# Altium footprint library PcbLib1.PcbLib: 3 footprints
Each footprint in its own frame and in the unit in brackets; x right, y up, seen from the top. Pads: shape width x height; smd on the part's side, far side on the other; paste and mask are expansions set on the pad; w line width, h text height; cw(c..) or ccw(c..) is an arc to the next point about the centre after c.
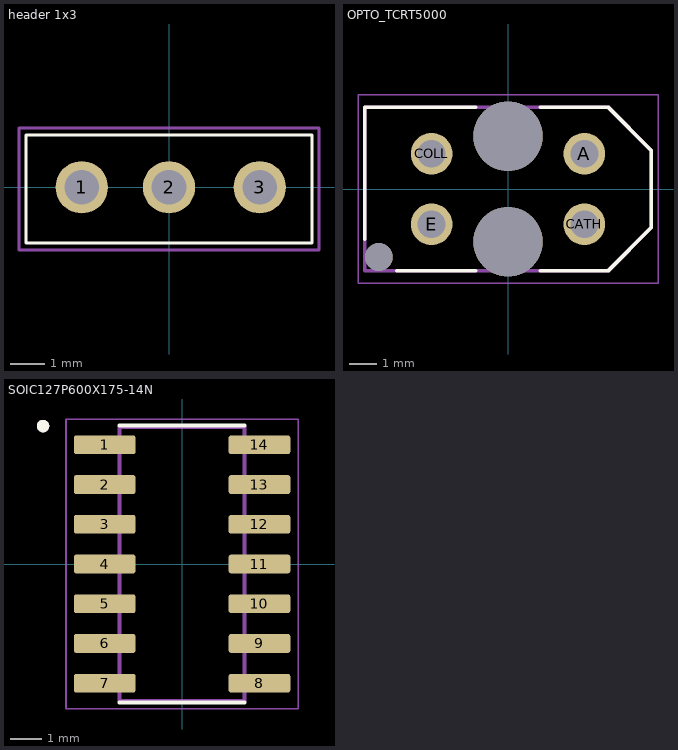
[diagram p0: the footprints below, top view; thin cyan lines are the x and y axes]

## header 1x3 [mm]
pads (3):
  round 1.5 hole 1: 1(-2.5,0) 2(0,0) 3(2.6,0)
Top Overlay:
  lines w0.076: -4.1,-1.6 4.1,-1.6 4.1,1.5 -4.1,1.5 -4.1,-1.6
Mechanical 15:
  lines w0.076: -4.3,-1.8 4.3,-1.8 4.3,1.7 -4.3,1.7 -4.3,-1.8
3D body "User Library-1x3 TH Pitch 2_54mm.STEP": height 9.58, standoff -3.12, extent -3.81,-1.27 3.81,1.27

## OPTO_TCRT5000 [mm]
pads (7):
  round 1.5 hole 1: A(2.75,1.27) CATH(2.75,-1.27) COLL(-2.75,1.27) E(-2.75,-1.27)
  round 1 hole 1 unplated: ""(-4.65,-2.45)
  round 2.5 hole 2.5 unplated: ""(0,-1.9) ""(0,1.9)
Top Overlay:
  lines w0.127: -5.15,-1.8 -5.15,2.95 -1.17,2.95 ; -4,-2.95 -1.17,-2.95 ; 1.17,-2.95 3.6,-2.95 5.15,-1.4 5.15,1.4 3.6,2.95 1.17,2.95
Mechanical 13:
  lines w0.127: -5.15,-2.95 3.6,-2.95 5.15,-1.4 5.15,1.4 3.6,2.95 -5.15,2.95 -5.15,-2.95
Mechanical 15:
  lines w0.05: -5.4,-3.4 5.4,-3.4 5.4,3.4 -5.4,3.4 -5.4,-3.4
3D body "TCRT5000--3DModel-STEP-56544.STEP": height 7.58, standoff -3.42, extent -5.12,-3.4 5.08,3.4

## SOIC127P600X175-14N [mm]
pads (14):
  rrect25% 1.97x0.6 smd: 1(-2.475,3.81) 2(-2.475,2.54) 3(-2.475,1.27) 4(-2.475,0) 5(-2.475,-1.27) 6(-2.475,-2.54) 7(-2.475,-3.81) 8(2.475,-3.81) 9(2.475,-2.54) 10(2.475,-1.27) 11(2.475,0) 12(2.475,1.27) 13(2.475,2.54) 14(2.475,3.81)
Top Overlay:
  circle w0.2: c-4.445,4.41 r0.1
  lines w0.127: -2,-4.43 2,-4.43 ; -2,4.43 2,4.43
Mechanical 13:
  circle w0.2: c-4.445,4.41 r0.1
  lines w0.127: -2,-4.375 -2,4.375 2,4.375 2,-4.375 -2,-4.375
Mechanical 15:
  lines w0.05: -3.71,-4.625 -3.71,4.625 3.71,4.625 3.71,-4.625 -3.71,-4.625